# Altium schematic symbol library AD823A.SchLib: 1 symbol
Pins are listed as number, name and electrical type; pins without a type are passive.

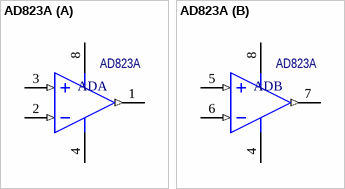
[diagram p0: symbol AD823A]

## AD823A
designator AD  (value not drawn)
Wide Supply Dual, 17 MHz, Rail-to-Rail / FET Input Amplifier; Потребление, мВт: 0.5; Назначение: Wide Supply Dual, 17 MHz, Rail-to-Rail; Datasheet: https://static.chipdip.ru/lib/046/DOC003046159.pdf; ComponentLink1Description: Datasheet; ComponentLink1URL: https://static.chipdip.ru/lib/046/DOC003046159.pdf; Supplier 1: Farnell; Наименование: AD823A
footprint SOIC-8
footprint HO2.8-1B+SOIC-8_INV
part A pins: 1 OUT A (out), 2 -IN A (in), 3 +IN A (in), 4 Vss- (power), 8 Vss+ (power)
part B pins: 4 Vss- (power), 5 +IN B (in), 6 -IN B (in), 7 OUT B (out), 8 Vss+ (power)